# Altium integrated library Silicon Labs Clocks and Oscillators.IntLib: 678 symbols (part 38 of 45)
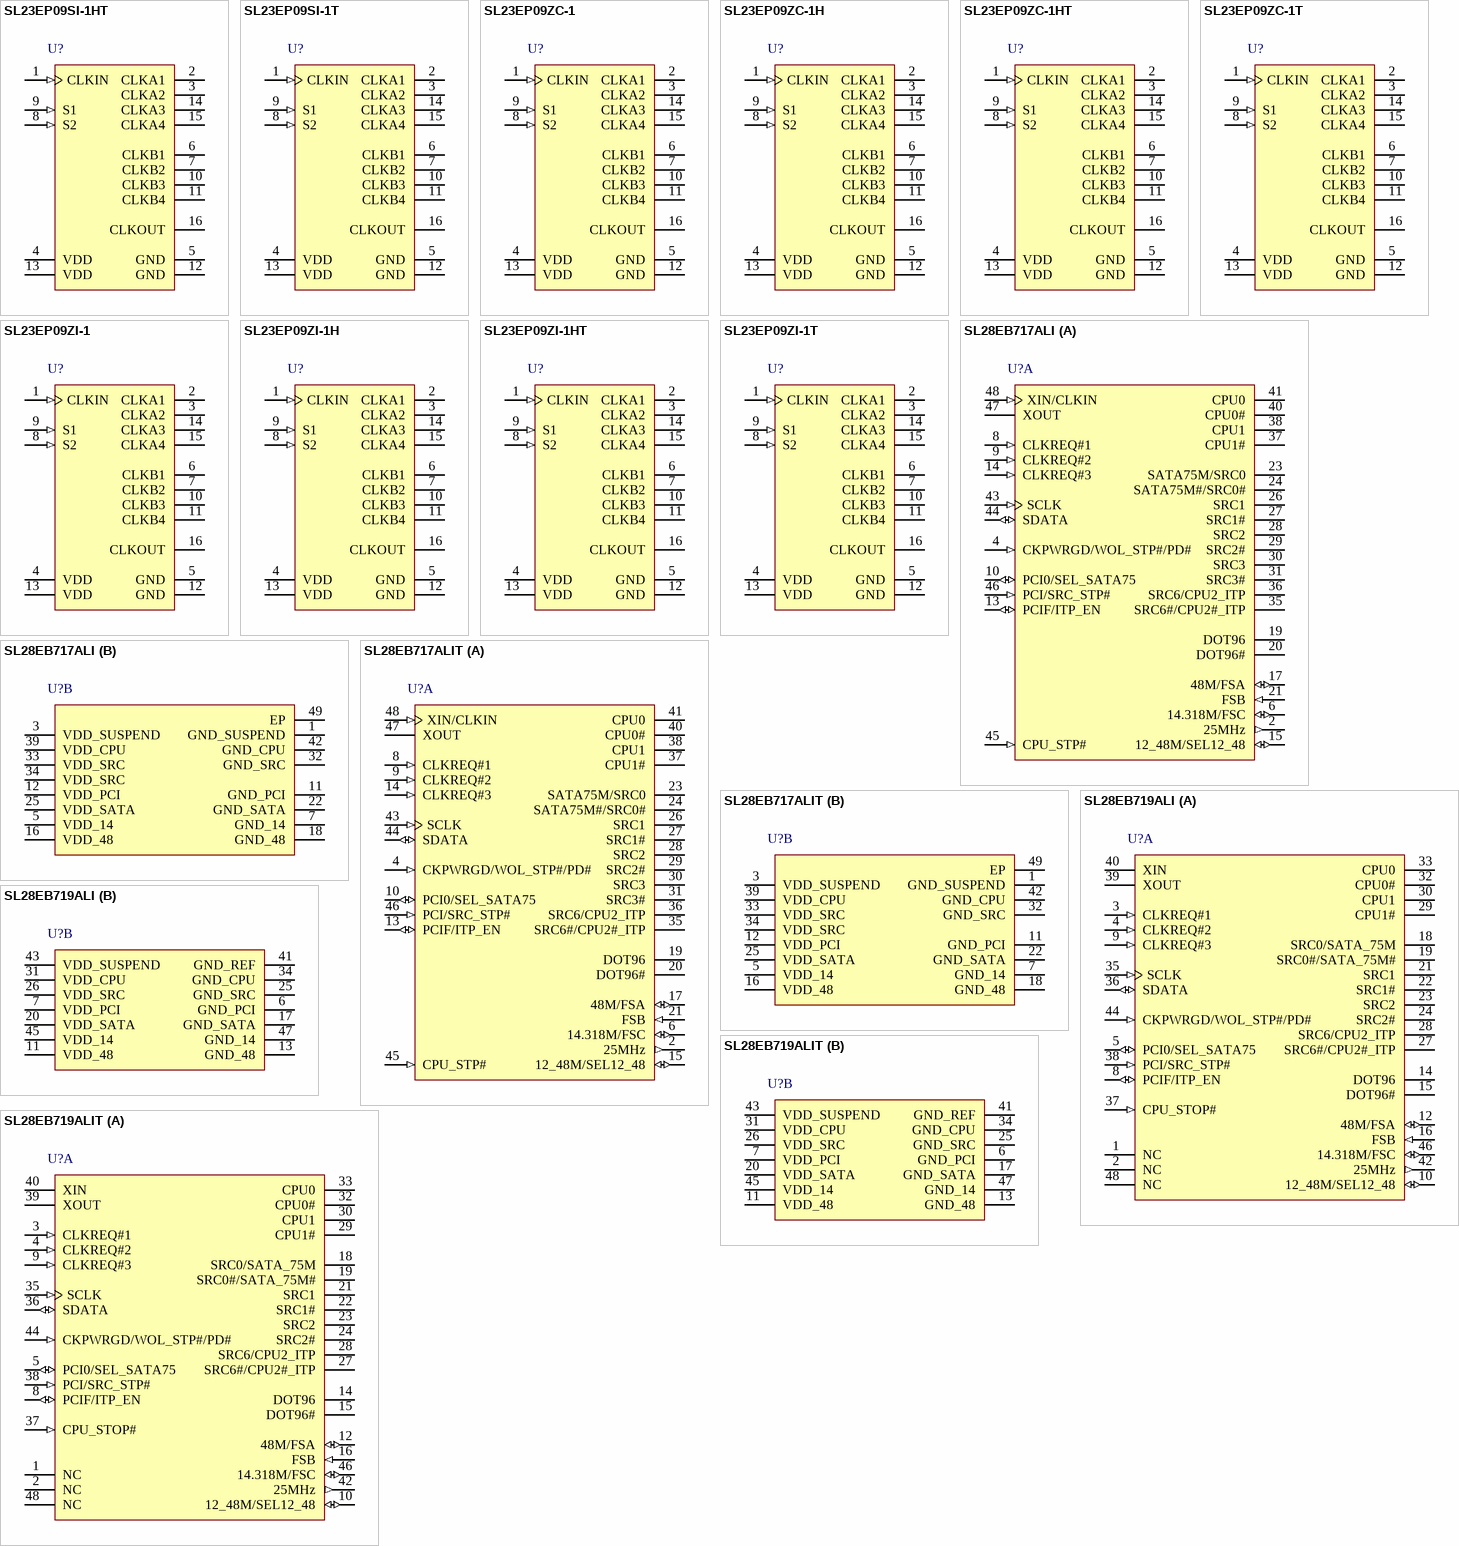
[diagram p81: symbols SL23EP09SI-1HT to SL28EB719ALIT]

## SL23EP09ZC-1
designator U?
Low Jitter and Skew Zero Delay Buffer (ZDB), 10 to 220 MHz, 0 to 70 degC, 16-pin SOP, Tube; Manufacturer: Silicon Labs; PartNumber: SL23EP09ZC-1; Output Format: LVCMOS; Sub-Family: Clock Buffers; DatasheetVersion: Rev. 2.0; PackageReference: TSSOP-16_A; PackageDescription: 16-Pin Thin Shrink Small-Outline Package, Body 5 x 4.4 mm, Pitch 0.65 mm; Supplier 1: Digi-Key; Supplier Part Number 1: SL23EP09ZC-1-ND; Supplier 2: Mouser; Supplier Part Number 2: 634-SL23EP09ZC-1; Frequency (MHz): 10 to 220; Packing: Tube; Mounting Technology: Surface Mount; ComponentLink1Description: Manufacturer URL; ComponentLink1URL: http://www.silabs.com/; ComponentLink2Description: Datasheet; ComponentLink2URL: http://www.silabs.com/Support%20Documents/TechnicalDocs/SL23EP09.pdf; ComponentLink3Description: Package Specification; ComponentLink3URL: http://www.silabs.com/Support%20Documents/TechnicalDocs/SL2309.pdf
footprint SLAB-TSSOP-16_A_N (SOP, 16-Leads, Body 5.1x4.5mm, Pitch 0.65mm, IPC Medium Density)
footprint SLAB-TSSOP-16_A_L (SOP, 16-Leads, Body 5.1x4.5mm, Pitch 0.65mm, IPC High Density)
footprint SLAB-TSSOP-16_A_M (SOP, 16-Leads, Body 5.1x4.5mm, Pitch 0.65mm, IPC Low Density)
pins: 1 CLKIN (in) "Reference Frequency Clock Input. Weak pull-down (250kohm).", 2 CLKA1 (hiz) "Buffered Clock Output, Bank A. Weak pull-down (250kohm).", 3 CLKA2 (hiz) "Buffered Clock Output, Bank A. Weak pull-down (250kohm).", 4 VDD (power), 5 GND (power) "Power Ground.", 6 CLKB1 (hiz) "Buffered Clock Output, Bank B. Weak pull-down (250kohm).", 7 CLKB2 (hiz) "Buffered Clock Output, Bank B. Weak pull-down (250kohm).", 8 S2 (in) "Select Input, select pin S2. Weak pull-up (250kohm).", 9 S1 (in) "Select Input, select pin S1. Weak pull-up (250kohm).", 10 CLKB3 (hiz) "Buffered Clock Output, Bank B. Weak pull-down (250kohm).", 11 CLKB4 (hiz) "Buffered Clock Output, Bank B. Weak pull-down (250kohm).", 12 GND (power) "Power Ground.", 13 VDD (power), 14 CLKA3 (hiz) "Buffered Clock Output, Bank A. Weak pull-down (250kohm).", 15 CLKA4 (hiz) "Buffered Clock Output, Bank A. Weak pull-down (250kohm).", 16 CLKOUT (hiz) "Buffered Clock Output, PLL Internal Feedback Output. Weak pull-down (250kohm)."

## SL23EP09ZC-1H
designator U?
Low Jitter and Skew Zero Delay Buffer (ZDB), 10 to 220 MHz, 0 to 70 degC, 16-pin SOP, Tube; Manufacturer: Silicon Labs; PartNumber: SL23EP09ZC-1H; Output Format: LVCMOS; Sub-Family: Clock Buffers; DatasheetVersion: Rev. 2.0; PackageReference: TSSOP-16_A; PackageDescription: 16-Pin Thin Shrink Small-Outline Package, Body 5 x 4.4 mm, Pitch 0.65 mm; Supplier 1: Digi-Key; Supplier Part Number 1: SL23EP09ZC-1H-ND; Supplier 2: Mouser; Supplier Part Number 2: 634-SL23EP09ZC-1H; Frequency (MHz): 10 to 220; Packing: Tube; Mounting Technology: Surface Mount; ComponentLink1Description: Manufacturer URL; ComponentLink1URL: http://www.silabs.com/; ComponentLink2Description: Datasheet; ComponentLink2URL: http://www.silabs.com/Support%20Documents/TechnicalDocs/SL23EP09.pdf; ComponentLink3Description: Package Specification; ComponentLink3URL: http://www.silabs.com/Support%20Documents/TechnicalDocs/SL2309.pdf
footprint SLAB-TSSOP-16_A_N (SOP, 16-Leads, Body 5.1x4.5mm, Pitch 0.65mm, IPC Medium Density)
footprint SLAB-TSSOP-16_A_L (SOP, 16-Leads, Body 5.1x4.5mm, Pitch 0.65mm, IPC High Density)
footprint SLAB-TSSOP-16_A_M (SOP, 16-Leads, Body 5.1x4.5mm, Pitch 0.65mm, IPC Low Density)
pins: 1 CLKIN (in) "Reference Frequency Clock Input. Weak pull-down (250kohm).", 2 CLKA1 (hiz) "Buffered Clock Output, Bank A. Weak pull-down (250kohm).", 3 CLKA2 (hiz) "Buffered Clock Output, Bank A. Weak pull-down (250kohm).", 4 VDD (power), 5 GND (power) "Power Ground.", 6 CLKB1 (hiz) "Buffered Clock Output, Bank B. Weak pull-down (250kohm).", 7 CLKB2 (hiz) "Buffered Clock Output, Bank B. Weak pull-down (250kohm).", 8 S2 (in) "Select Input, select pin S2. Weak pull-up (250kohm).", 9 S1 (in) "Select Input, select pin S1. Weak pull-up (250kohm).", 10 CLKB3 (hiz) "Buffered Clock Output, Bank B. Weak pull-down (250kohm).", 11 CLKB4 (hiz) "Buffered Clock Output, Bank B. Weak pull-down (250kohm).", 12 GND (power) "Power Ground.", 13 VDD (power), 14 CLKA3 (hiz) "Buffered Clock Output, Bank A. Weak pull-down (250kohm).", 15 CLKA4 (hiz) "Buffered Clock Output, Bank A. Weak pull-down (250kohm).", 16 CLKOUT (hiz) "Buffered Clock Output, PLL Internal Feedback Output. Weak pull-down (250kohm)."

## SL23EP09ZC-1HT
designator U?
Low Jitter and Skew Zero Delay Buffer (ZDB), 10 to 220 MHz, 0 to 70 degC, 16-pin SOP, Tape and Reel; Manufacturer: Silicon Labs; PartNumber: SL23EP09ZC-1HT; Output Format: LVCMOS; Sub-Family: Clock Buffers; DatasheetVersion: Rev. 2.0; PackageReference: TSSOP-16_A; PackageDescription: 16-Pin Thin Shrink Small-Outline Package, Body 5 x 4.4 mm, Pitch 0.65 mm; Supplier 1: Digi-Key; Supplier Part Number 1: SL23EP09ZC-1HT-ND; Supplier 2: Mouser; Supplier Part Number 2: 634-SL23EP09ZC-1HT; Frequency (MHz): 10 to 220; Packing: Tape and Reel; Mounting Technology: Surface Mount; ComponentLink1Description: Manufacturer URL; ComponentLink1URL: http://www.silabs.com/; ComponentLink2Description: Datasheet; ComponentLink2URL: http://www.silabs.com/Support%20Documents/TechnicalDocs/SL23EP09.pdf; ComponentLink3Description: Package Specification; ComponentLink3URL: http://www.silabs.com/Support%20Documents/TechnicalDocs/SL2309.pdf
footprint SLAB-TSSOP-16_A_N (SOP, 16-Leads, Body 5.1x4.5mm, Pitch 0.65mm, IPC Medium Density)
footprint SLAB-TSSOP-16_A_L (SOP, 16-Leads, Body 5.1x4.5mm, Pitch 0.65mm, IPC High Density)
footprint SLAB-TSSOP-16_A_M (SOP, 16-Leads, Body 5.1x4.5mm, Pitch 0.65mm, IPC Low Density)
pins: 1 CLKIN (in) "Reference Frequency Clock Input. Weak pull-down (250kohm).", 2 CLKA1 (hiz) "Buffered Clock Output, Bank A. Weak pull-down (250kohm).", 3 CLKA2 (hiz) "Buffered Clock Output, Bank A. Weak pull-down (250kohm).", 4 VDD (power), 5 GND (power) "Power Ground.", 6 CLKB1 (hiz) "Buffered Clock Output, Bank B. Weak pull-down (250kohm).", 7 CLKB2 (hiz) "Buffered Clock Output, Bank B. Weak pull-down (250kohm).", 8 S2 (in) "Select Input, select pin S2. Weak pull-up (250kohm).", 9 S1 (in) "Select Input, select pin S1. Weak pull-up (250kohm).", 10 CLKB3 (hiz) "Buffered Clock Output, Bank B. Weak pull-down (250kohm).", 11 CLKB4 (hiz) "Buffered Clock Output, Bank B. Weak pull-down (250kohm).", 12 GND (power) "Power Ground.", 13 VDD (power), 14 CLKA3 (hiz) "Buffered Clock Output, Bank A. Weak pull-down (250kohm).", 15 CLKA4 (hiz) "Buffered Clock Output, Bank A. Weak pull-down (250kohm).", 16 CLKOUT (hiz) "Buffered Clock Output, PLL Internal Feedback Output. Weak pull-down (250kohm)."

## SL23EP09ZC-1T
designator U?
Low Jitter and Skew Zero Delay Buffer (ZDB), 10 to 220 MHz, 0 to 70 degC, 16-pin SOP, Tape and Reel; Manufacturer: Silicon Labs; PartNumber: SL23EP09ZC-1T; Output Format: LVCMOS; Sub-Family: Clock Buffers; DatasheetVersion: Rev. 2.0; PackageReference: TSSOP-16_A; PackageDescription: 16-Pin Thin Shrink Small-Outline Package, Body 5 x 4.4 mm, Pitch 0.65 mm; Supplier 1: Digi-Key; Supplier Part Number 1: SL23EP09ZC-1T-ND; Supplier 2: Mouser; Supplier Part Number 2: 634-SL23EP09ZC-1T; Frequency (MHz): 10 to 220; Packing: Tape and Reel; Mounting Technology: Surface Mount; ComponentLink1Description: Manufacturer URL; ComponentLink1URL: http://www.silabs.com/; ComponentLink2Description: Datasheet; ComponentLink2URL: http://www.silabs.com/Support%20Documents/TechnicalDocs/SL23EP09.pdf; ComponentLink3Description: Package Specification; ComponentLink3URL: http://www.silabs.com/Support%20Documents/TechnicalDocs/SL2309.pdf
footprint SLAB-TSSOP-16_A_N (SOP, 16-Leads, Body 5.1x4.5mm, Pitch 0.65mm, IPC Medium Density)
footprint SLAB-TSSOP-16_A_L (SOP, 16-Leads, Body 5.1x4.5mm, Pitch 0.65mm, IPC High Density)
footprint SLAB-TSSOP-16_A_M (SOP, 16-Leads, Body 5.1x4.5mm, Pitch 0.65mm, IPC Low Density)
pins: 1 CLKIN (in) "Reference Frequency Clock Input. Weak pull-down (250kohm).", 2 CLKA1 (hiz) "Buffered Clock Output, Bank A. Weak pull-down (250kohm).", 3 CLKA2 (hiz) "Buffered Clock Output, Bank A. Weak pull-down (250kohm).", 4 VDD (power), 5 GND (power) "Power Ground.", 6 CLKB1 (hiz) "Buffered Clock Output, Bank B. Weak pull-down (250kohm).", 7 CLKB2 (hiz) "Buffered Clock Output, Bank B. Weak pull-down (250kohm).", 8 S2 (in) "Select Input, select pin S2. Weak pull-up (250kohm).", 9 S1 (in) "Select Input, select pin S1. Weak pull-up (250kohm).", 10 CLKB3 (hiz) "Buffered Clock Output, Bank B. Weak pull-down (250kohm).", 11 CLKB4 (hiz) "Buffered Clock Output, Bank B. Weak pull-down (250kohm).", 12 GND (power) "Power Ground.", 13 VDD (power), 14 CLKA3 (hiz) "Buffered Clock Output, Bank A. Weak pull-down (250kohm).", 15 CLKA4 (hiz) "Buffered Clock Output, Bank A. Weak pull-down (250kohm).", 16 CLKOUT (hiz) "Buffered Clock Output, PLL Internal Feedback Output. Weak pull-down (250kohm)."

## SL23EP09ZI-1
designator U?
Low Jitter and Skew Zero Delay Buffer (ZDB), 10 to 220 MHz, -40 to 85 degC, 16-pin SOP, Tube; Manufacturer: Silicon Labs; PartNumber: SL23EP09ZI-1; Output Format: LVCMOS; Sub-Family: Clock Buffers; DatasheetVersion: Rev. 2.0; PackageReference: TSSOP-16_A; PackageDescription: 16-Pin Thin Shrink Small-Outline Package, Body 5 x 4.4 mm, Pitch 0.65 mm; Supplier 1: Digi-Key; Supplier Part Number 1: SL23EP09ZI-1-ND; Supplier 2: Mouser; Supplier Part Number 2: 634-SL23EP09ZI-1; Frequency (MHz): 10 to 220; Packing: Tube; Mounting Technology: Surface Mount; ComponentLink1Description: Manufacturer URL; ComponentLink1URL: http://www.silabs.com/; ComponentLink2Description: Datasheet; ComponentLink2URL: http://www.silabs.com/Support%20Documents/TechnicalDocs/SL23EP09.pdf; ComponentLink3Description: Package Specification; ComponentLink3URL: http://www.silabs.com/Support%20Documents/TechnicalDocs/SL2309.pdf
footprint SLAB-TSSOP-16_A_N (SOP, 16-Leads, Body 5.1x4.5mm, Pitch 0.65mm, IPC Medium Density)
footprint SLAB-TSSOP-16_A_L (SOP, 16-Leads, Body 5.1x4.5mm, Pitch 0.65mm, IPC High Density)
footprint SLAB-TSSOP-16_A_M (SOP, 16-Leads, Body 5.1x4.5mm, Pitch 0.65mm, IPC Low Density)
pins: 1 CLKIN (in) "Reference Frequency Clock Input. Weak pull-down (250kohm).", 2 CLKA1 (hiz) "Buffered Clock Output, Bank A. Weak pull-down (250kohm).", 3 CLKA2 (hiz) "Buffered Clock Output, Bank A. Weak pull-down (250kohm).", 4 VDD (power), 5 GND (power) "Power Ground.", 6 CLKB1 (hiz) "Buffered Clock Output, Bank B. Weak pull-down (250kohm).", 7 CLKB2 (hiz) "Buffered Clock Output, Bank B. Weak pull-down (250kohm).", 8 S2 (in) "Select Input, select pin S2. Weak pull-up (250kohm).", 9 S1 (in) "Select Input, select pin S1. Weak pull-up (250kohm).", 10 CLKB3 (hiz) "Buffered Clock Output, Bank B. Weak pull-down (250kohm).", 11 CLKB4 (hiz) "Buffered Clock Output, Bank B. Weak pull-down (250kohm).", 12 GND (power) "Power Ground.", 13 VDD (power), 14 CLKA3 (hiz) "Buffered Clock Output, Bank A. Weak pull-down (250kohm).", 15 CLKA4 (hiz) "Buffered Clock Output, Bank A. Weak pull-down (250kohm).", 16 CLKOUT (hiz) "Buffered Clock Output, PLL Internal Feedback Output. Weak pull-down (250kohm)."

## SL23EP09ZI-1H
designator U?
Low Jitter and Skew Zero Delay Buffer (ZDB), 10 to 220 MHz, -40 to 85 degC, 16-pin SOP, Tube; Manufacturer: Silicon Labs; PartNumber: SL23EP09ZI-1H; Output Format: LVCMOS; Sub-Family: Clock Buffers; DatasheetVersion: Rev. 2.0; PackageReference: TSSOP-16_A; PackageDescription: 16-Pin Thin Shrink Small-Outline Package, Body 5 x 4.4 mm, Pitch 0.65 mm; Supplier 1: Digi-Key; Supplier Part Number 1: SL23EP09ZI-1H-ND; Supplier 2: Mouser; Supplier Part Number 2: 634-SL23EP09ZI-1H; Frequency (MHz): 10 to 220; Packing: Tube; Mounting Technology: Surface Mount; ComponentLink1Description: Manufacturer URL; ComponentLink1URL: http://www.silabs.com/; ComponentLink2Description: Datasheet; ComponentLink2URL: http://www.silabs.com/Support%20Documents/TechnicalDocs/SL23EP09.pdf; ComponentLink3Description: Package Specification; ComponentLink3URL: http://www.silabs.com/Support%20Documents/TechnicalDocs/SL2309.pdf
footprint SLAB-TSSOP-16_A_N (SOP, 16-Leads, Body 5.1x4.5mm, Pitch 0.65mm, IPC Medium Density)
footprint SLAB-TSSOP-16_A_L (SOP, 16-Leads, Body 5.1x4.5mm, Pitch 0.65mm, IPC High Density)
footprint SLAB-TSSOP-16_A_M (SOP, 16-Leads, Body 5.1x4.5mm, Pitch 0.65mm, IPC Low Density)
pins: 1 CLKIN (in) "Reference Frequency Clock Input. Weak pull-down (250kohm).", 2 CLKA1 (hiz) "Buffered Clock Output, Bank A. Weak pull-down (250kohm).", 3 CLKA2 (hiz) "Buffered Clock Output, Bank A. Weak pull-down (250kohm).", 4 VDD (power), 5 GND (power) "Power Ground.", 6 CLKB1 (hiz) "Buffered Clock Output, Bank B. Weak pull-down (250kohm).", 7 CLKB2 (hiz) "Buffered Clock Output, Bank B. Weak pull-down (250kohm).", 8 S2 (in) "Select Input, select pin S2. Weak pull-up (250kohm).", 9 S1 (in) "Select Input, select pin S1. Weak pull-up (250kohm).", 10 CLKB3 (hiz) "Buffered Clock Output, Bank B. Weak pull-down (250kohm).", 11 CLKB4 (hiz) "Buffered Clock Output, Bank B. Weak pull-down (250kohm).", 12 GND (power) "Power Ground.", 13 VDD (power), 14 CLKA3 (hiz) "Buffered Clock Output, Bank A. Weak pull-down (250kohm).", 15 CLKA4 (hiz) "Buffered Clock Output, Bank A. Weak pull-down (250kohm).", 16 CLKOUT (hiz) "Buffered Clock Output, PLL Internal Feedback Output. Weak pull-down (250kohm)."

## SL23EP09ZI-1HT
designator U?
Low Jitter and Skew Zero Delay Buffer (ZDB), 10 to 220 MHz, -40 to 85 degC, 16-pin SOP, Tape and Reel; Manufacturer: Silicon Labs; PartNumber: SL23EP09ZI-1HT; Output Format: LVCMOS; Sub-Family: Clock Buffers; DatasheetVersion: Rev. 2.0; PackageReference: TSSOP-16_A; PackageDescription: 16-Pin Thin Shrink Small-Outline Package, Body 5 x 4.4 mm, Pitch 0.65 mm; Supplier 1: Digi-Key; Supplier Part Number 1: SL23EP09ZI-1HT-ND; Supplier 2: Mouser; Supplier Part Number 2: 634-SL23EP09ZI-1HT; Frequency (MHz): 10 to 220; Packing: Tape and Reel; Mounting Technology: Surface Mount; ComponentLink1Description: Manufacturer URL; ComponentLink1URL: http://www.silabs.com/; ComponentLink2Description: Datasheet; ComponentLink2URL: http://www.silabs.com/Support%20Documents/TechnicalDocs/SL23EP09.pdf; ComponentLink3Description: Package Specification; ComponentLink3URL: http://www.silabs.com/Support%20Documents/TechnicalDocs/SL2309.pdf
footprint SLAB-TSSOP-16_A_N (SOP, 16-Leads, Body 5.1x4.5mm, Pitch 0.65mm, IPC Medium Density)
footprint SLAB-TSSOP-16_A_L (SOP, 16-Leads, Body 5.1x4.5mm, Pitch 0.65mm, IPC High Density)
footprint SLAB-TSSOP-16_A_M (SOP, 16-Leads, Body 5.1x4.5mm, Pitch 0.65mm, IPC Low Density)
pins: 1 CLKIN (in) "Reference Frequency Clock Input. Weak pull-down (250kohm).", 2 CLKA1 (hiz) "Buffered Clock Output, Bank A. Weak pull-down (250kohm).", 3 CLKA2 (hiz) "Buffered Clock Output, Bank A. Weak pull-down (250kohm).", 4 VDD (power), 5 GND (power) "Power Ground.", 6 CLKB1 (hiz) "Buffered Clock Output, Bank B. Weak pull-down (250kohm).", 7 CLKB2 (hiz) "Buffered Clock Output, Bank B. Weak pull-down (250kohm).", 8 S2 (in) "Select Input, select pin S2. Weak pull-up (250kohm).", 9 S1 (in) "Select Input, select pin S1. Weak pull-up (250kohm).", 10 CLKB3 (hiz) "Buffered Clock Output, Bank B. Weak pull-down (250kohm).", 11 CLKB4 (hiz) "Buffered Clock Output, Bank B. Weak pull-down (250kohm).", 12 GND (power) "Power Ground.", 13 VDD (power), 14 CLKA3 (hiz) "Buffered Clock Output, Bank A. Weak pull-down (250kohm).", 15 CLKA4 (hiz) "Buffered Clock Output, Bank A. Weak pull-down (250kohm).", 16 CLKOUT (hiz) "Buffered Clock Output, PLL Internal Feedback Output. Weak pull-down (250kohm)."

## SL23EP09ZI-1T
designator U?
Low Jitter and Skew Zero Delay Buffer (ZDB), 10 to 220 MHz, -40 to 85 degC, 16-pin SOP, Tape and Reel; Manufacturer: Silicon Labs; PartNumber: SL23EP09ZI-1T; Output Format: LVCMOS; Sub-Family: Clock Buffers; DatasheetVersion: Rev. 2.0; PackageReference: TSSOP-16_A; PackageDescription: 16-Pin Thin Shrink Small-Outline Package, Body 5 x 4.4 mm, Pitch 0.65 mm; Supplier 1: Digi-Key; Supplier Part Number 1: SL23EP09ZI-1T-ND; Supplier 2: Mouser; Supplier Part Number 2: 634-SL23EP09ZI-1T; Frequency (MHz): 10 to 220; Packing: Tape and Reel; Mounting Technology: Surface Mount; ComponentLink1Description: Manufacturer URL; ComponentLink1URL: http://www.silabs.com/; ComponentLink2Description: Datasheet; ComponentLink2URL: http://www.silabs.com/Support%20Documents/TechnicalDocs/SL23EP09.pdf; ComponentLink3Description: Package Specification; ComponentLink3URL: http://www.silabs.com/Support%20Documents/TechnicalDocs/SL2309.pdf
footprint SLAB-TSSOP-16_A_N (SOP, 16-Leads, Body 5.1x4.5mm, Pitch 0.65mm, IPC Medium Density)
footprint SLAB-TSSOP-16_A_L (SOP, 16-Leads, Body 5.1x4.5mm, Pitch 0.65mm, IPC High Density)
footprint SLAB-TSSOP-16_A_M (SOP, 16-Leads, Body 5.1x4.5mm, Pitch 0.65mm, IPC Low Density)
pins: 1 CLKIN (in) "Reference Frequency Clock Input. Weak pull-down (250kohm).", 2 CLKA1 (hiz) "Buffered Clock Output, Bank A. Weak pull-down (250kohm).", 3 CLKA2 (hiz) "Buffered Clock Output, Bank A. Weak pull-down (250kohm).", 4 VDD (power), 5 GND (power) "Power Ground.", 6 CLKB1 (hiz) "Buffered Clock Output, Bank B. Weak pull-down (250kohm).", 7 CLKB2 (hiz) "Buffered Clock Output, Bank B. Weak pull-down (250kohm).", 8 S2 (in) "Select Input, select pin S2. Weak pull-up (250kohm).", 9 S1 (in) "Select Input, select pin S1. Weak pull-up (250kohm).", 10 CLKB3 (hiz) "Buffered Clock Output, Bank B. Weak pull-down (250kohm).", 11 CLKB4 (hiz) "Buffered Clock Output, Bank B. Weak pull-down (250kohm).", 12 GND (power) "Power Ground.", 13 VDD (power), 14 CLKA3 (hiz) "Buffered Clock Output, Bank A. Weak pull-down (250kohm).", 15 CLKA4 (hiz) "Buffered Clock Output, Bank A. Weak pull-down (250kohm).", 16 CLKOUT (hiz) "Buffered Clock Output, PLL Internal Feedback Output. Weak pull-down (250kohm)."

## SL28EB717ALI
designator U?
EProClock(R) Generator for Intel Tunnel Creek & Top Cliff, 3.3 V, 166 MHz Max Output, -40 to 85 degC, 48-pin QFN; Manufacturer: Silicon Labs; PartNumber: SL28EB717ALI; Output Format: LVCMOS; HCSL; Output Frequency (MHz): 12, 14.318, 25, 27, 33, 48, 75, 83.33 to 166, 96, 100; Reference Inputs: 1; VDD: 3.3 V; Sub-Family: Clock Generators; DatasheetVersion: Rev. AA; PackageReference: QFN-48; PackageDescription: 48-Pin Quad-Flat No-Leads Package, Body 6 x 6 mm, Pitch 0.4 mm; Supplier 1: Digi-Key; Supplier Part Number 1: SL28EB717ALI-ND; Supplier 2: Mouser; Supplier Part Number 2: 634-SL28EB717ALI; Mounting Technology: Surface Mount; ComponentLink1Description: Manufacturer URL; ComponentLink1URL: http://www.silabs.com/; ComponentLink2Description: Datasheet; ComponentLink2URL: http://www.silabs.com/Support%20Documents/TechnicalDocs/SL28EB717.pdf; ComponentLink3Description: Package Specification; ComponentLink3URL: http://www.silabs.com/Support%20Documents/TechnicalDocs/SL28610.pdf
footprint SLAB-QFN-48-4400x4400TP_N (QFN, 48-Leads, Body 6.1x6.1mm, Pitch 0.4mm, Thermal Pad 4.4x4.4mm, IPC Medium Density)
footprint SLAB-QFN-48-4400x4400TP_L (QFN, 48-Leads, Body 6.1x6.1mm, Pitch 0.4mm, Thermal Pad 4.4x4.4mm, IPC High Density)
footprint SLAB-QFN-48-4400x4400TP_M (QFN, 48-Leads, Body 6.1x6.1mm, Pitch 0.4mm, Thermal Pad 4.4x4.4mm, IPC Low Density)
part A pins: 2 25MHz (out) "25MHz reference output clock", 4 CKPWRGD/WOL_STP#/PD# (in), 6 14.318M/FSC (io), 8 CLKREQ#1 (in) "3.3V clock request input (internal 100K-ohm pull-down)", 9 CLKREQ#2 (in) "3.3V clock request input (internal 100K-ohm pull-down)", 10 PCI0/SEL_SATA75 (io), 13 PCIF/ITP_EN (io), 14 CLKREQ#3 (in) "3.3V clock request input (internal 100K-ohm pull-down)", 15 12_48M/SEL12_48 (io), 17 48M/FSA (io), 19 DOT96 (hiz) "Fixed true 96MHz clock output", 20 DOT96# (hiz) "Fixed complement 96MHz clock output", 21 FSB (in) "3.3V-tolerant input for CPU frequency selection (internal 100K-ohm pull-down) Refer to DC Electrical Specifications table for Vil_FS and Vih_FS specifications.", 23 SATA75M/SRC0 (hiz), 24 SATA75M#/SRC0# (hiz), 26 SRC1 (hiz) "100MHz True differential serial reference clock", 27 SRC1# (hiz) "100MHz Complement differential serial reference clock", 28 SRC2 (hiz) "100MHz True differential serial reference clock", 29 SRC2# (hiz) "100MHz Complement differential serial reference clock", 30 SRC3 (hiz) "100MHz True differential serial reference clock", 31 SRC3# (hiz) "100MHz Complement differential serial reference clock", 35 SRC6#/CPU2#_ITP (hiz), 36 SRC6/CPU2_ITP (hiz), 37 CPU1# (hiz) "Complement differential CPU clock output", 38 CPU1 (hiz) "True differential CPU clock output", 40 CPU0# (hiz) "Complement differential CPU clock output", 41 CPU0 (hiz) "True differential CPU clock output", 43 SCLK (in) "SMBus compatible SCLOCK", 44 SDATA (io) "SMBus compatible SDATA", 45 CPU_STP# (in) "3.3V-tolerant input for stopping CPU outputs (internal 100K-ohm pull-up)", 46 PCI/SRC_STP# (in), 47 XOUT "25.00MHz Crystal output, Float XOUT if using only CLKIN (Clock input)", 48 XIN/CLKIN (in)
part B pins: 1 GND_SUSPEND (power) "Ground for REF clock and WOL support", 3 VDD_SUSPEND (power) "3.3V Power Supply for REF clock and power to support WOL", 5 VDD_14 (power) "3.3V Power supply for 14.318MHz clock", 7 GND_14 (power) "Ground for 14.318MHz clock", 11 GND_PCI (power) "Ground for PCI clocks", 12 VDD_PCI (power) "3.3V Power supply for PCI clocks", 16 VDD_48 (power) "3.3V Power supply for 48MHz clocks", 18 GND_48 (power) "Ground for 48MHz clocks", 22 GND_SATA (power) "Ground for SATA clock", 25 VDD_SATA (power) "3.3V Power supply for SATA clock", 32 GND_SRC (power) "Ground for SRC clocks", 33 VDD_SRC (power) "3.3V Power supply for SRC clocks", 34 VDD_SRC (power) "3.3V Power supply for SRC clocks", 39 VDD_CPU (power) "3.3V Power supply for CPU clocks", 42 GND_CPU (power) "Ground for clocks", 49 EP

## SL28EB717ALIT
designator U?
EProClock(R) Generator for Intel Tunnel Creek & Top Cliff, 3.3 V, 166 MHz Max Output, -40 to 85 degC, 48-pin QFN, Tape and Reel; Manufacturer: Silicon Labs; PartNumber: SL28EB717ALIT; Output Format: LVCMOS; HCSL; Output Frequency (MHz): 12, 14.318, 25, 27, 33, 48, 75, 83.33 to 166, 96, 100; Phase Jitter (RMS): > 1 ps; Reference Inputs: 1; VDD: 3.3 V; Sub-Family: Clock Generators; DatasheetVersion: Rev. AA; PackageReference: QFN-48; PackageDescription: 48-Pin Quad-Flat No-Leads Package, Body 6 x 6 mm, Pitch 0.4 mm; Supplier 1: Digi-Key; Supplier Part Number 1: SL28EB717ALIT-ND; Supplier 2: Mouser; Supplier Part Number 2: 634-SL28EB717ALIT; Packing: Tape and Reel; Mounting Technology: Surface Mount; ComponentLink1Description: Manufacturer URL; ComponentLink1URL: http://www.silabs.com/; ComponentLink2Description: Datasheet; ComponentLink2URL: http://www.silabs.com/Support%20Documents/TechnicalDocs/SL28EB717.pdf; ComponentLink3Description: Package Specification; ComponentLink3URL: http://www.silabs.com/Support%20Documents/TechnicalDocs/SL28610.pdf
footprint SLAB-QFN-48-4400x4400TP_N (QFN, 48-Leads, Body 6.1x6.1mm, Pitch 0.4mm, Thermal Pad 4.4x4.4mm, IPC Medium Density)
footprint SLAB-QFN-48-4400x4400TP_L (QFN, 48-Leads, Body 6.1x6.1mm, Pitch 0.4mm, Thermal Pad 4.4x4.4mm, IPC High Density)
footprint SLAB-QFN-48-4400x4400TP_M (QFN, 48-Leads, Body 6.1x6.1mm, Pitch 0.4mm, Thermal Pad 4.4x4.4mm, IPC Low Density)
part A pins: 2 25MHz (out) "25MHz reference output clock", 4 CKPWRGD/WOL_STP#/PD# (in), 6 14.318M/FSC (io), 8 CLKREQ#1 (in) "3.3V clock request input (internal 100K-ohm pull-down)", 9 CLKREQ#2 (in) "3.3V clock request input (internal 100K-ohm pull-down)", 10 PCI0/SEL_SATA75 (io), 13 PCIF/ITP_EN (io), 14 CLKREQ#3 (in) "3.3V clock request input (internal 100K-ohm pull-down)", 15 12_48M/SEL12_48 (io), 17 48M/FSA (io), 19 DOT96 (hiz) "Fixed true 96MHz clock output", 20 DOT96# (hiz) "Fixed complement 96MHz clock output", 21 FSB (in) "3.3V-tolerant input for CPU frequency selection (internal 100K-ohm pull-down) Refer to DC Electrical Specifications table for Vil_FS and Vih_FS specifications.", 23 SATA75M/SRC0 (hiz), 24 SATA75M#/SRC0# (hiz), 26 SRC1 (hiz) "100MHz True differential serial reference clock", 27 SRC1# (hiz) "100MHz Complement differential serial reference clock", 28 SRC2 (hiz) "100MHz True differential serial reference clock", 29 SRC2# (hiz) "100MHz Complement differential serial reference clock", 30 SRC3 (hiz) "100MHz True differential serial reference clock", 31 SRC3# (hiz) "100MHz Complement differential serial reference clock", 35 SRC6#/CPU2#_ITP (hiz), 36 SRC6/CPU2_ITP (hiz), 37 CPU1# (hiz) "Complement differential CPU clock output", 38 CPU1 (hiz) "True differential CPU clock output", 40 CPU0# (hiz) "Complement differential CPU clock output", 41 CPU0 (hiz) "True differential CPU clock output", 43 SCLK (in) "SMBus compatible SCLOCK", 44 SDATA (io) "SMBus compatible SDATA", 45 CPU_STP# (in) "3.3V-tolerant input for stopping CPU outputs (internal 100K-ohm pull-up)", 46 PCI/SRC_STP# (in), 47 XOUT "25.00MHz Crystal output, Float XOUT if using only CLKIN (Clock input)", 48 XIN/CLKIN (in)
part B pins: 1 GND_SUSPEND (power) "Ground for REF clock and WOL support", 3 VDD_SUSPEND (power) "3.3V Power Supply for REF clock and power to support WOL", 5 VDD_14 (power) "3.3V Power supply for 14.318MHz clock", 7 GND_14 (power) "Ground for 14.318MHz clock", 11 GND_PCI (power) "Ground for PCI clocks", 12 VDD_PCI (power) "3.3V Power supply for PCI clocks", 16 VDD_48 (power) "3.3V Power supply for 48MHz clocks", 18 GND_48 (power) "Ground for 48MHz clocks", 22 GND_SATA (power) "Ground for SATA clock", 25 VDD_SATA (power) "3.3V Power supply for SATA clock", 32 GND_SRC (power) "Ground for SRC clocks", 33 VDD_SRC (power) "3.3V Power supply for SRC clocks", 34 VDD_SRC (power) "3.3V Power supply for SRC clocks", 39 VDD_CPU (power) "3.3V Power supply for CPU clocks", 42 GND_CPU (power) "Ground for clocks", 49 EP

## SL28EB719ALI
designator U?
EProClock(R) Generator for Intel Tunnel Creek & Top Cliff, 3.3 V, 166 MHz Max Output, -40 to 85 degC, 48-pin SOP; Manufacturer: Silicon Labs; PartNumber: SL28EB719ALI; Output Format: LVCMOS; HCSL; Output Frequency (MHz): 12, 14.318, 25, 27, 33, 48, 75, 83.33 to 166, 96, 100; Reference Inputs: 1; VDD: 3.3 V; Sub-Family: Clock Generators; DatasheetVersion: Rev. AB; PackageReference: TSSOP-48; PackageDescription: 48-Pin Thin Shrink Small-Outline Package, Body 12.5 x 6.1 mm, Pitch 0.5 mm; Mounting Technology: Surface Mount; Code_JEDEC: MO-153; ComponentLink1Description: Manufacturer URL; ComponentLink1URL: http://www.silabs.com/; ComponentLink2Description: Datasheet; ComponentLink2URL: http://www.silabs.com/Support%20Documents/TechnicalDocs/SL28EB719.pdf; ComponentLink3Description: Package Specification; ComponentLink3URL: http://www.silabs.com/Support%20Documents/TechnicalDocs/SL28EB719.pdf
footprint SLAB-TSSOP-48_A_N (SOP, 48-Leads, Body 12.6x6.2mm, Pitch 0.5mm, IPC Medium Density)
footprint SLAB-TSSOP-48_A_L (SOP, 48-Leads, Body 12.6x6.2mm, Pitch 0.5mm, IPC High Density)
footprint SLAB-TSSOP-48_A_M (SOP, 48-Leads, Body 12.6x6.2mm, Pitch 0.5mm, IPC Low Density)
part A pins: 1 NC "No Connect.", 2 NC "No Connect.", 3 CLKREQ#1 (in) "3.3V clock request input (internal 100K-ohm pull-down)", 4 CLKREQ#2 (in) "3.3V clock request input (internal 100K-ohm pull-down)", 5 PCI0/SEL_SATA75 (io), 8 PCIF/ITP_EN (io), 9 CLKREQ#3 (in) "3.3V clock request input (internal 100K-ohm pull-down)", 10 12_48M/SEL12_48 (io), 12 48M/FSA (io), 14 DOT96 (hiz) "Fixed true 96MHz clock output", 15 DOT96# (hiz) "Fixed complement 96MHz clock output", 16 FSB (in) "3.3V-tolerant input for CPU frequency selection (internal 100K-ohm pull-down). Refer to DC Electrical Specifications table for Vil_FS and Vih_FS specifications.", 18 SRC0/SATA_75M (hiz), 19 SRC0#/SATA_75M# (hiz), 21 SRC1 (hiz) "100MHz True differential serial reference clock", 22 SRC1# (hiz) "100MHz Complement differential serial reference clock", 23 SRC2 (hiz) "100MHz True differential serial reference clock", 24 SRC2# (hiz) "100MHz Complement differential serial reference clock", 27 SRC6#/CPU2#_ITP (hiz), 28 SRC6/CPU2_ITP (hiz), 29 CPU1# (hiz) "Complement differential CPU clock output", 30 CPU1 (hiz) "True differential CPU clock output", 32 CPU0# (hiz) "Complement differential CPU clock output", 33 CPU0 (hiz) "True differential CPU clock output", 35 SCLK (in) "SMBus compatible SCLOCK", 36 SDATA (io) "SMBus compatible SDATA", 37 CPU_STOP# (in) "3.3V-tolerant input for stopping CPU outputs (internal 100K-ohm pull-up)", 38 PCI/SRC_STP# (in) "3.3V-tolerant input for stopping PCI and SRC outputs (internal 100K-ohm pull-up)", 39 XOUT "25.00MHz Crystal output", 40 XIN "25.00MHz Crystal input", 42 25MHz (out) "25MHz reference output clock", 44 CKPWRGD/WOL_STP#/PD# (in), 46 14.318M/FSC (io), 48 NC "No Connect."
part B pins: 6 GND_PCI (power) "Ground for PCI clocks", 7 VDD_PCI (power) "3.3V Power supply for PCI clocks", 11 VDD_48 (power) "3.3V Power supply for 48MHz clocks", 13 GND_48 (power) "Ground for 48MHz clocks", 17 GND_SATA (power) "Ground for SATA clock", 20 VDD_SATA (power) "3.3V Power supply for SATA clock", 25 GND_SRC (power) "Ground for SRC clocks", 26 VDD_SRC (power) "3.3V Power supply for SRC clocks", 31 VDD_CPU (power) "3.3V Power supply for CPU clocks", 34 GND_CPU (power) "Ground for clocks", 41 GND_REF (power) "Ground for REF clock", 43 VDD_SUSPEND (power) "3.3V Power Supply for REF clock and power to support WOL", 45 VDD_14 (power) "3.3V Power supply for 14.318MHz clock", 47 GND_14 (power) "Ground for 14.318MHz clock"

## SL28EB719ALIT
designator U?
EProClock(R) Generator for Intel Tunnel Creek & Top Cliff, 3.3 V, 166 MHz Max Output, -40 to 85 degC, 48-pin SOP, Tape and Reel; Manufacturer: Silicon Labs; PartNumber: SL28EB719ALIT; Output Format: LVCMOS; HCSL; Output Frequency (MHz): 12, 14.318, 25, 27, 33, 48, 75, 83.33 to 166, 96, 100; Phase Jitter (RMS): > 1 ps; Reference Inputs: 1; VDD: 3.3 V; Sub-Family: Clock Generators; DatasheetVersion: Rev. AB; PackageReference: TSSOP-48; PackageDescription: 48-Pin Thin Shrink Small-Outline Package, Body 12.5 x 6.1 mm, Pitch 0.5 mm; Packing: Tape and Reel; Mounting Technology: Surface Mount; Code_JEDEC: MO-153; ComponentLink1Description: Manufacturer URL; ComponentLink1URL: http://www.silabs.com/; ComponentLink2Description: Datasheet; ComponentLink2URL: http://www.silabs.com/Support%20Documents/TechnicalDocs/SL28EB719.pdf; ComponentLink3Description: Package Specification; ComponentLink3URL: http://www.silabs.com/Support%20Documents/TechnicalDocs/SL28EB719.pdf
footprint SLAB-TSSOP-48_A_N (SOP, 48-Leads, Body 12.6x6.2mm, Pitch 0.5mm, IPC Medium Density)
footprint SLAB-TSSOP-48_A_L (SOP, 48-Leads, Body 12.6x6.2mm, Pitch 0.5mm, IPC High Density)
footprint SLAB-TSSOP-48_A_M (SOP, 48-Leads, Body 12.6x6.2mm, Pitch 0.5mm, IPC Low Density)
part A pins: 1 NC "No Connect.", 2 NC "No Connect.", 3 CLKREQ#1 (in) "3.3V clock request input (internal 100K-ohm pull-down)", 4 CLKREQ#2 (in) "3.3V clock request input (internal 100K-ohm pull-down)", 5 PCI0/SEL_SATA75 (io), 8 PCIF/ITP_EN (io), 9 CLKREQ#3 (in) "3.3V clock request input (internal 100K-ohm pull-down)", 10 12_48M/SEL12_48 (io), 12 48M/FSA (io), 14 DOT96 (hiz) "Fixed true 96MHz clock output", 15 DOT96# (hiz) "Fixed complement 96MHz clock output", 16 FSB (in) "3.3V-tolerant input for CPU frequency selection (internal 100K-ohm pull-down). Refer to DC Electrical Specifications table for Vil_FS and Vih_FS specifications.", 18 SRC0/SATA_75M (hiz), 19 SRC0#/SATA_75M# (hiz), 21 SRC1 (hiz) "100MHz True differential serial reference clock", 22 SRC1# (hiz) "100MHz Complement differential serial reference clock", 23 SRC2 (hiz) "100MHz True differential serial reference clock", 24 SRC2# (hiz) "100MHz Complement differential serial reference clock", 27 SRC6#/CPU2#_ITP (hiz), 28 SRC6/CPU2_ITP (hiz), 29 CPU1# (hiz) "Complement differential CPU clock output", 30 CPU1 (hiz) "True differential CPU clock output", 32 CPU0# (hiz) "Complement differential CPU clock output", 33 CPU0 (hiz) "True differential CPU clock output", 35 SCLK (in) "SMBus compatible SCLOCK", 36 SDATA (io) "SMBus compatible SDATA", 37 CPU_STOP# (in) "3.3V-tolerant input for stopping CPU outputs (internal 100K-ohm pull-up)", 38 PCI/SRC_STP# (in) "3.3V-tolerant input for stopping PCI and SRC outputs (internal 100K-ohm pull-up)", 39 XOUT "25.00MHz Crystal output", 40 XIN "25.00MHz Crystal input", 42 25MHz (out) "25MHz reference output clock", 44 CKPWRGD/WOL_STP#/PD# (in), 46 14.318M/FSC (io), 48 NC "No Connect."
part B pins: 6 GND_PCI (power) "Ground for PCI clocks", 7 VDD_PCI (power) "3.3V Power supply for PCI clocks", 11 VDD_48 (power) "3.3V Power supply for 48MHz clocks", 13 GND_48 (power) "Ground for 48MHz clocks", 17 GND_SATA (power) "Ground for SATA clock", 20 VDD_SATA (power) "3.3V Power supply for SATA clock", 25 GND_SRC (power) "Ground for SRC clocks", 26 VDD_SRC (power) "3.3V Power supply for SRC clocks", 31 VDD_CPU (power) "3.3V Power supply for CPU clocks", 34 GND_CPU (power) "Ground for clocks", 41 GND_REF (power) "Ground for REF clock", 43 VDD_SUSPEND (power) "3.3V Power Supply for REF clock and power to support WOL", 45 VDD_14 (power) "3.3V Power supply for 14.318MHz clock", 47 GND_14 (power) "Ground for 14.318MHz clock"

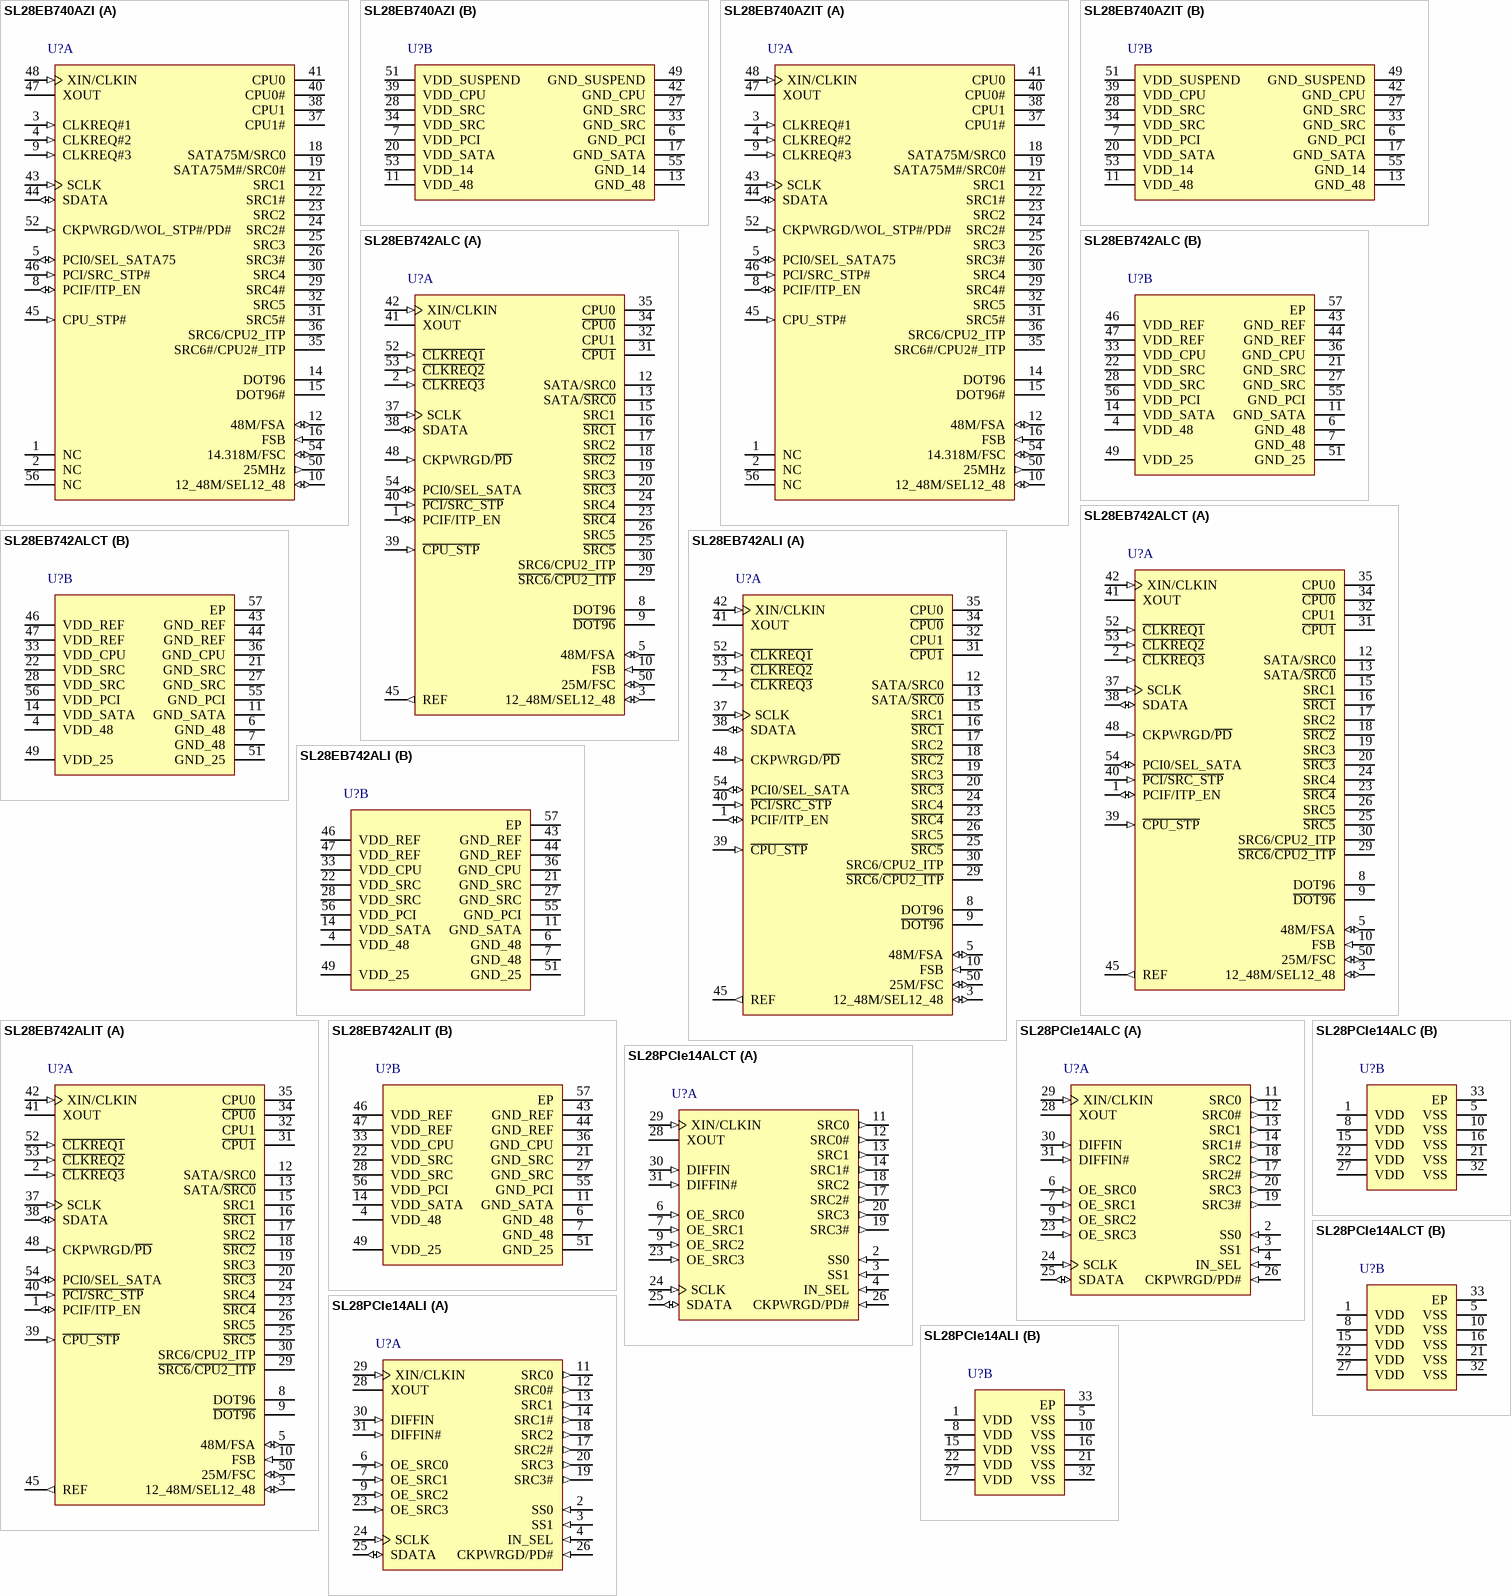
[diagram p37: symbols SL28EB740AZI to SL28PCIe14ALI]

## SL28EB740AZI
designator U?
EProClock(R) Generator for Intel Tunnel Creek & Top Cliff, 3.3 V, 166 MHz Max Output, -40 to 85 degC, 56-pin SOP; Manufacturer: Silicon Labs; PartNumber: SL28EB740AZI; Output Format: LVCMOS; HCSL; Output Frequency (MHz): 12; 14.318; 25; 33; 48; 75; 83.33 to166; 96; 100; Reference Inputs: 1; VDD: 3.3 V; Sub-Family: Clock Generators; DatasheetVersion: Rev. AC; PackageReference: TSSOP-56; PackageDescription: 56-Pin Thin Shrink Small-Outline Package, Body 14 x 6.1 mm, Pitch 0.5 mm; Supplier 1: Digi-Key; Supplier Part Number 1: SL28EB740AZI-ND; Supplier 2: Mouser; Supplier Part Number 2: 634-SL28EB740AZI; Mounting Technology: Surface Mount; Code_JEDEC: MO-153; ComponentLink1Description: Manufacturer URL; ComponentLink1URL: http://www.silabs.com/; ComponentLink2Description: Datasheet; ComponentLink2URL: http://www.silabs.com/Support%20Documents/TechnicalDocs/SL28EB740.pdf; ComponentLink3Description: Package Specification; ComponentLink3URL: http://www.silabs.com/Support%20Documents/TechnicalDocs/SL28541-2.pdf
footprint SLAB-TSSOP-56_A_N (SOP, 56-Leads, Body 14.1x6.2mm, Pitch 0.5mm, IPC Medium Density)
footprint SLAB-TSSOP-56_A_L (SOP, 56-Leads, Body 14.1x6.2mm, Pitch 0.5mm, IPC High Density)
footprint SLAB-TSSOP-56_A_M (SOP, 56-Leads, Body 14.1x6.2mm, Pitch 0.5mm, IPC Low Density)
part A pins: 1 NC "No Connect.", 2 NC "No Connect.", 3 CLKREQ#1 (in) "3.3V clock request input (internal 100K-ohm pull-down)", 4 CLKREQ#2 (in) "3.3V clock request input (internal 100K-ohm pull-down)", 5 PCI0/SEL_SATA75 (io) "33MHz clock output/3.3V LVTTL input to enable 75MHz SATA (internal 100K-ohm pull-down) 0 = SATA75/SRC0 = 100MHz, 1 = SATA75/SRC0 = 75MHz", 8 PCIF/ITP_EN (io) "33 MHz free running clock output/3.3V LVTTL input to enable SRC6 or CPU2_ITP (sampled on the CKPWRGD assertion) 0= SRC6, 1= CPU2", 9 CLKREQ#3 (in) "3.3V clock request input (internal 100K-ohm pull-down)", 10 12_48M/SEL12_48 (io) "12 MHz/ 48MHz Clock output/3.3V-tolerance input for 12MHz or 48MHz selection (Sampled at CKPWRGD assertion) (internal 100K-ohm pull-up) 0 = 48M, 1 = 12M", 12 48M/FSA (io) "Fixed 48 MHz clock output/3.3V-tolerant input for CPU frequency selection (internal 100K-ohm pull-down) Refer to DC Electrical Specifications table for Vil_FS and Vih_FS specifications.", 14 DOT96 (hiz) "Fixed true 96MHz clock output", 15 DOT96# (hiz) "Fixed complement 96MHz clock output", 16 FSB (in) "3.3V-tolerant input for CPU frequency selection (internal 100K-ohm pull-down) Refer to DC Electrical Specifications table for Vil_FS and Vih_FS specifications.", 18 SATA75M/SRC0 (hiz) "75MHz or 100MHz True differential serial reference clock", 19 SATA75M#/SRC0# (hiz) "75MHz or 100MHz Complement differential serial reference clock", 21 SRC1 (hiz) "100MHz True differential serial reference clock", 22 SRC1# (hiz) "100MHz Complement differential serial reference clock", 23 SRC2 (hiz) "100MHz True differential serial reference clock", 24 SRC2# (hiz) "100MHz Complement differential serial reference clock", 25 SRC3 (hiz) "100MHz True differential serial reference clock", 26 SRC3# (hiz) "100MHz Complement differential serial reference clock", 29 SRC4# (hiz) "100MHz True differential serial reference clock", 30 SRC4 (hiz) "100MHz Complement differential serial reference clock", 31 SRC5# (hiz) "100MHz True differential serial reference clock", 32 SRC5 (hiz) "100MHz Complement differential serial reference clock", 35 SRC6#/CPU2#_ITP (hiz) "Selectable complementary differential CPU or SRC clock output. ITP_EN = 0 @ CKPWRGD assertion = SRC6; ITP_EN = 1 @ CKPWRGD assertion = CPU2", 36 SRC6/CPU2_ITP (hiz) "Selectable complementary differential CPU or SRC clock output. ITP_EN = 0 @ CKPWRGD assertion = SRC6; ITP_EN = 1 @ CKPWRGD assertion = CPU2", 37 CPU1# (hiz) "Complement differential CPU clock output", 38 CPU1 (hiz) "True differential CPU clock output", 40 CPU0# (hiz) "Complement differential CPU clock output", 41 CPU0 (hiz) "True differential CPU clock output", 43 SCLK (in) "SMBus compatible SCLOCK", 44 SDATA (io) "SMBus compatible SDATA", 45 CPU_STP# (in) "3.3V-tolerant input for stopping CPU outputs (internal 100K-ohm pull-up)", 46 PCI/SRC_STP# (in) "3.3V-tolerant input for stopping PCI and SRC outputs (internal 100K-ohm pull-up)", 47 XOUT "25.00MHz Crystal output, Float XOUT if using only CLKIN (Clock input)", 48 XIN/CLKIN (in) "25.00MHz Crystal input or 3.3V, 25MHzClock Input", 50 25MHz (out) "25MHz reference output clock", 52 CKPWRGD/WOL_STP#/PD# (in) "3.3V LVTTL input. This pin is a level sensitive strobe used to determine when latch inputs are valid and are ready to be sampled / Asynchronous active low input pin that stops all outputs except free running 25MHz when (See Datasheet)", 54 14.318M/FSC (io) "Fixed 14.318MHz clock output/3.3V-tolerant input for CPU frequency selection (internal 100K-ohm pull-down) Refer to DC Electrical Specifications table for Vil_FS and Vih_FS specifications.", 56 NC "No Connect."
part B pins: 6 GND_PCI (power) "Ground", 7 VDD_PCI (power) "3.3V Power supply", 11 VDD_48 (power) "3.3V Power supply", 13 GND_48 (power) "Ground", 17 GND_SATA (power) "Ground", 20 VDD_SATA (power) "3.3V Power supply", 27 GND_SRC (power) "Ground", 28 VDD_SRC (power) "3.3V Power supply", 33 GND_SRC (power) "Ground", 34 VDD_SRC (power) "3.3V Power supply", 39 VDD_CPU (power) "3.3V Power supply", 42 GND_CPU (power) "Ground", 49 GND_SUSPEND (power) "Ground for REF clock and WOL support", 51 VDD_SUSPEND (power) "3.3V Power Supply for REF clock and power to support WOL", 53 VDD_14 (power) "3.3V Power supply", 55 GND_14 (power) "Ground"

## SL28EB740AZIT
designator U?
EProClock(R) Generator for Intel Tunnel Creek & Top Cliff, 3.3 V, 166 MHz Max Output, -40 to 85 degC, 56-pin SOP, Tape and Reel; Manufacturer: Silicon Labs; PartNumber: SL28EB740AZIT; Output Format: LVCMOS; HCSL; Output Frequency (MHz): 12; 14.318; 25; 33; 48; 75; 83.33 to166; 96; 100; Phase Jitter (RMS): > 1 ps; Reference Inputs: 1; VDD: 3.3 V; Sub-Family: Clock Generators; DatasheetVersion: Rev. AC; PackageReference: TSSOP-56; PackageDescription: 56-Pin Thin Shrink Small-Outline Package, Body 14 x 6.1 mm, Pitch 0.5 mm; Supplier 1: Digi-Key; Supplier Part Number 1: SL28EB740AZIT-ND; Supplier 2: Mouser; Supplier Part Number 2: 634-SL28EB740AZIT; Packing: Tape and Reel; Mounting Technology: Surface Mount; Code_JEDEC: MO-153; ComponentLink1Description: Manufacturer URL; ComponentLink1URL: http://www.silabs.com/; ComponentLink2Description: Datasheet; ComponentLink2URL: http://www.silabs.com/Support%20Documents/TechnicalDocs/SL28EB740.pdf; ComponentLink3Description: Package Specification; ComponentLink3URL: http://www.silabs.com/Support%20Documents/TechnicalDocs/SL28541-2.pdf
footprint SLAB-TSSOP-56_A_N (SOP, 56-Leads, Body 14.1x6.2mm, Pitch 0.5mm, IPC Medium Density)
footprint SLAB-TSSOP-56_A_L (SOP, 56-Leads, Body 14.1x6.2mm, Pitch 0.5mm, IPC High Density)
footprint SLAB-TSSOP-56_A_M (SOP, 56-Leads, Body 14.1x6.2mm, Pitch 0.5mm, IPC Low Density)
part A pins: 1 NC "No Connect.", 2 NC "No Connect.", 3 CLKREQ#1 (in) "3.3V clock request input (internal 100K-ohm pull-down)", 4 CLKREQ#2 (in) "3.3V clock request input (internal 100K-ohm pull-down)", 5 PCI0/SEL_SATA75 (io) "33MHz clock output/3.3V LVTTL input to enable 75MHz SATA (internal 100K-ohm pull-down) 0 = SATA75/SRC0 = 100MHz, 1 = SATA75/SRC0 = 75MHz", 8 PCIF/ITP_EN (io) "33 MHz free running clock output/3.3V LVTTL input to enable SRC6 or CPU2_ITP (sampled on the CKPWRGD assertion) 0= SRC6, 1= CPU2", 9 CLKREQ#3 (in) "3.3V clock request input (internal 100K-ohm pull-down)", 10 12_48M/SEL12_48 (io) "12 MHz/ 48MHz Clock output/3.3V-tolerance input for 12MHz or 48MHz selection (Sampled at CKPWRGD assertion) (internal 100K-ohm pull-up) 0 = 48M, 1 = 12M", 12 48M/FSA (io) "Fixed 48 MHz clock output/3.3V-tolerant input for CPU frequency selection (internal 100K-ohm pull-down) Refer to DC Electrical Specifications table for Vil_FS and Vih_FS specifications.", 14 DOT96 (hiz) "Fixed true 96MHz clock output", 15 DOT96# (hiz) "Fixed complement 96MHz clock output", 16 FSB (in) "3.3V-tolerant input for CPU frequency selection (internal 100K-ohm pull-down) Refer to DC Electrical Specifications table for Vil_FS and Vih_FS specifications.", 18 SATA75M/SRC0 (hiz) "75MHz or 100MHz True differential serial reference clock", 19 SATA75M#/SRC0# (hiz) "75MHz or 100MHz Complement differential serial reference clock", 21 SRC1 (hiz) "100MHz True differential serial reference clock", 22 SRC1# (hiz) "100MHz Complement differential serial reference clock", 23 SRC2 (hiz) "100MHz True differential serial reference clock", 24 SRC2# (hiz) "100MHz Complement differential serial reference clock", 25 SRC3 (hiz) "100MHz True differential serial reference clock", 26 SRC3# (hiz) "100MHz Complement differential serial reference clock", 29 SRC4# (hiz) "100MHz True differential serial reference clock", 30 SRC4 (hiz) "100MHz Complement differential serial reference clock", 31 SRC5# (hiz) "100MHz True differential serial reference clock", 32 SRC5 (hiz) "100MHz Complement differential serial reference clock", 35 SRC6#/CPU2#_ITP (hiz) "Selectable complementary differential CPU or SRC clock output. ITP_EN = 0 @ CKPWRGD assertion = SRC6; ITP_EN = 1 @ CKPWRGD assertion = CPU2", 36 SRC6/CPU2_ITP (hiz) "Selectable complementary differential CPU or SRC clock output. ITP_EN = 0 @ CKPWRGD assertion = SRC6; ITP_EN = 1 @ CKPWRGD assertion = CPU2", 37 CPU1# (hiz) "Complement differential CPU clock output", 38 CPU1 (hiz) "True differential CPU clock output", 40 CPU0# (hiz) "Complement differential CPU clock output", 41 CPU0 (hiz) "True differential CPU clock output", 43 SCLK (in) "SMBus compatible SCLOCK", 44 SDATA (io) "SMBus compatible SDATA", 45 CPU_STP# (in) "3.3V-tolerant input for stopping CPU outputs (internal 100K-ohm pull-up)", 46 PCI/SRC_STP# (in) "3.3V-tolerant input for stopping PCI and SRC outputs (internal 100K-ohm pull-up)", 47 XOUT "25.00MHz Crystal output, Float XOUT if using only CLKIN (Clock input)", 48 XIN/CLKIN (in) "25.00MHz Crystal input or 3.3V, 25MHzClock Input", 50 25MHz (out) "25MHz reference output clock", 52 CKPWRGD/WOL_STP#/PD# (in) "3.3V LVTTL input. This pin is a level sensitive strobe used to determine when latch inputs are valid and are ready to be sampled / Asynchronous active low input pin that stops all outputs except free running 25MHz when (See Datasheet)", 54 14.318M/FSC (io) "Fixed 14.318MHz clock output/3.3V-tolerant input for CPU frequency selection (internal 100K-ohm pull-down) Refer to DC Electrical Specifications table for Vil_FS and Vih_FS specifications.", 56 NC "No Connect."
part B pins: 6 GND_PCI (power) "Ground", 7 VDD_PCI (power) "3.3V Power supply", 11 VDD_48 (power) "3.3V Power supply", 13 GND_48 (power) "Ground", 17 GND_SATA (power) "Ground", 20 VDD_SATA (power) "3.3V Power supply", 27 GND_SRC (power) "Ground", 28 VDD_SRC (power) "3.3V Power supply", 33 GND_SRC (power) "Ground", 34 VDD_SRC (power) "3.3V Power supply", 39 VDD_CPU (power) "3.3V Power supply", 42 GND_CPU (power) "Ground", 49 GND_SUSPEND (power) "Ground for REF clock and WOL support", 51 VDD_SUSPEND (power) "3.3V Power Supply for REF clock and power to support WOL", 53 VDD_14 (power) "3.3V Power supply", 55 GND_14 (power) "Ground"

## SL28EB742ALC
designator U?
Intel(R) Cedarview Embedded Clock Generator, 3.3 V, 166 MHz Max Output, 0 to 70 degC, 56-pin QFN; Manufacturer: Silicon Labs; PartNumber: SL28EB742ALC; Output Format: LVCMOS; HCSL; Output Frequency (MHz): 14.3; 33; 48; 96; 100; 133; 166; Reference Inputs: 1; VDD: 3.3 V; Sub-Family: Clock Generators; DatasheetVersion: Rev. 0.1; PackageReference: QFN-56; PackageDescription: 56-Pin Quad-Flat No-Leads Package, Body 8 x 8 mm, Pitch 0.5 mm; Supplier 1: Digi-Key; Supplier Part Number 1: 336-2265-ND; Supplier 2: Mouser; Supplier Part Number 2: 634-SL28EB742ALC; Mounting Technology: Surface Mount; Code_JEDEC: MO-220; Code_IPC: J-STD-020; ComponentLink1Description: Manufacturer URL; ComponentLink1URL: http://www.silabs.com/; ComponentLink2Description: Datasheet; ComponentLink2URL: http://www.silabs.com/Support%20Documents/TechnicalDocs/SL28EB742.pdf; ComponentLink3Description: Package Specification; ComponentLink3URL: http://www.silabs.com/Support%20Documents/TechnicalDocs/SL28EB742.pdf
footprint SLAB-QFN-56-5900x5900TP_N (QFN, 56-Leads, Body 8x8mm, Pitch 0.5mm, Thermal Pad 5.9x5.9mm, IPC Medium Density)
footprint SLAB-QFN-56-5900x5900TP_L (QFN, 56-Leads, Body 8x8mm, Pitch 0.5mm, Thermal Pad 5.9x5.9mm, IPC High Density)
footprint SLAB-QFN-56-5900x5900TP_M (QFN, 56-Leads, Body 8x8mm, Pitch 0.5mm, Thermal Pad 5.9x5.9mm, IPC Low Density)
part A pins: 1 PCIF/ITP_EN (io) "33 MHz free running clock output/3.3 V LVTTL input to enable SRC6 or CPU2_ITP (sampled on the CKPWRGD assertion). 0 = SRC6, 1 = CPU2", 2 ~{CLKREQ3} (in) "Active low input pin enables SRC3 (internal 100 kohm pull-down).", 3 12_48M/SEL12_48 (io) "12/48 MHz Clock output/3.3 V-tolerance input for 12 MHz or 48 MHz selection (Sampled at CKPWRGD assertion) (internal 100 kohm pull-up). 0 = 48M, 1 = 12M", 5 48M/FSA (io) "Fixed 48 MHz clock output/3.3 V-tolerant input for CPU frequency selection (internal 100 kohm pull-down).", 8 DOT96 (hiz) "Fixed true 96 MHz clock output.", 9 ~{DOT96} (hiz) "Fixed complement 96 MHz clock output.", 10 FSB (in) "3.3 V-tolerant input for CPU frequency selection (internal 100 kohm pulldown).", 12 SATA/SRC0 (hiz) "100 MHz True differential serial reference clock.", 13 SATA/~{SRC0} (hiz) "100 MHz Complement differential serial reference clock.", 15 SRC1 (hiz) "100 MHz True differential serial reference clock.", 16 ~{SRC1} (hiz) "100 MHz Complement differential serial reference clock.", 17 SRC2 (hiz) "100 MHz True differential serial reference clock.", 18 ~{SRC2} (hiz) "100 MHz Complement differential serial reference clock.", 19 SRC3 (hiz) "100 MHz True differential serial reference clock.", 20 ~{SRC3} (hiz) "100 MHz Complement differential serial reference clock.", 23 ~{SRC4} (hiz) "100 MHz Complement differential serial reference clock.", 24 SRC4 (hiz) "100 MHz True differential serial reference clock.", 25 ~{SRC5} (hiz) "100 MHz Complement differential serial reference clock.", 26 SRC5 (hiz) "100 MHz True differential serial reference clock.", 29 ~{SRC6}/~{CPU2_ITP} (hiz) "Selectable complementary differential CPU or SRC clock output.", 30 SRC6/CPU2_ITP (hiz) "Selectable True differential CPU or SRC clock output.", 31 ~{CPU1} (hiz) "Complement differential CPU clock output.", 32 CPU1 (hiz) "True differential CPU clock output.", 34 ~{CPU0} (hiz) "Complement differential CPU clock output.", 35 CPU0 (hiz) "True differential CPU clock output.", 37 SCLK (in) "I2C compatible SCLOCK.", 38 SDATA (io) "I2C compatible SDATA.", 39 ~{CPU_STP} (in) "3.3 V-tolerant input for stopping CPU outputs (internal 100 kohm pull-up).", 40 ~{PCI/SRC_STP} (in) "3.3 V-tolerant input for stopping PCI and SRC outputs (internal 100 kohm pull-up).", 41 XOUT "14.318 MHz Crystal output, Float XOUT if using only CLKIN (Clock input).", 42 XIN/CLKIN (in) "14.318 MHz Crystal input or 3.3 V, 14.318 MHz Clock Input", 45 REF (out) "14.318 MHz reference output clock.", 48 CKPWRGD/~{PD} (in) "3.3 V LVTTL input. This pin is a level sensitive strobe used to determine when latch inputs are valid and are ready to be sampled. After latch inputs are latched, this pin becomes a real-time active low input for asserting (See Datasheet)", 50 25M/FSC (io) "Fixed 25 MHz clock output/3.3 V-tolerant input for CPU frequency selection (internal 100 kohm pull-up).", 52 ~{CLKREQ1} (in) "Active low input pin enables SRC1 (internal 100 kohm pull-up).", 53 ~{CLKREQ2} (in) "Active low input pin enables SRC2 (internal 100 kohm pull-up).", 54 PCI0/SEL_SATA (io) "33 MHz clock output/3.3 V LVTTL input to enable 100 MHz SATA (internal 100 kohm pull-up). 0 = SATA/SRC0 = SRC0 1 = SATA/SRC0 = SATA"
part B pins: 4 VDD_48 (power) "3.3 V Power supply", 6 GND_48 (power) "Ground.", 7 GND_48 (power) "Ground.", 11 GND_SATA (power) "Ground.", 14 VDD_SATA (power) "3.3 V Power supply.", 21 GND_SRC (power) "Ground.", 22 VDD_SRC (power) "3.3 V Power supply.", 27 GND_SRC (power) "Ground.", 28 VDD_SRC (power) "3.3 V Power supply.", 33 VDD_CPU (power) "3.3V Power supply.", 36 GND_CPU (power) "Ground.", 43 GND_REF (power) "Ground for REF clock.", 44 GND_REF (power) "Ground for REF clock.", 46 VDD_REF (power) "3.3 V Power Supply for REF clock.", 47 VDD_REF (power) "3.3 V Power Supply for REF clock.", 49 VDD_25 (power) "3.3 V Power supply.", 51 GND_25 (power) "Ground.", 55 GND_PCI (power) "Ground.", 56 VDD_PCI (power) "3.3 V Power supply.", 57 EP